# EAGLE library part TEXAS_INSTRUMENTS-BUCK_BOOST_CONTROLLER-LM5170 (library Module_Regulators)
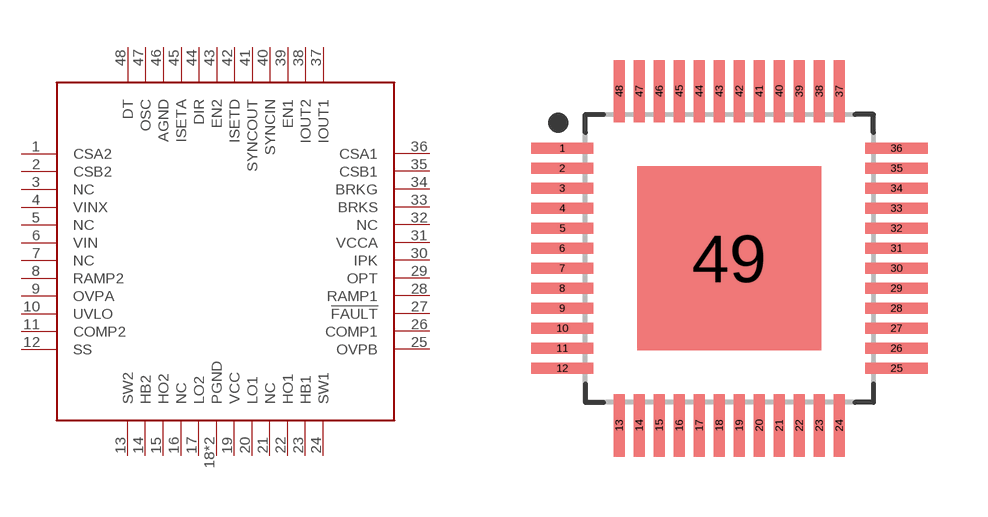
[diagram p38: symbol with the pads of TEXAS_INSTRUMENTS-BUCK-BOOST-CONTROLLER-LM5170; footprint TEXAS_INSTRUMENTS-BUCK-BOOST-CONTROLLER-LM5170]

Designator prefix U

## TEXAS_INSTRUMENTS-BUCK_BOOST_CONTROLLER-LM5170  [TEXAS_INSTRUMENTS-BUCK-BOOST-CONTROLLER-LM5170]
1  CSA2
2  CSB2
3  NC
4  VINX
5  NC
6  VIN
7  NC
8  RAMP2
9  OVPA
10  UVLO
11  COMP2
12  SS
13  SW2
14  HB2
15  HO2
16  NC
17  LO2
18  PGND
19  VCC
20  LO1
21  NC
22  HO1
23  HB1
24  SW1
25  OVPB
26  COMP1
27  !FAULT
28  RAMP1
29  OPT
30  IPK
31  VCCA
32  NC
33  BRKS
34  BRKG
35  CSB1
36  CSA1
37  IOUT1
38  IOUT2
39  EN1
40  SYNCIN
41  SYNCOUT
42  ISETD
43  EN2
44  DIR
45  ISETA
46  AGND
47  OSC
48  DT
49  PGND

## Footprint TEXAS_INSTRUMENTS-BUCK-BOOST-CONTROLLER-LM5170 (pad centres in mm)
48-QFP, 0.50 mm pitch, 9.00 mm span, 7.00 X 7.00 X 1.20 mm body, 4.60 X 4.60 mm thermal pad 48-pin QFP package with 0.50 mm pitch, 9.00 mm lead span1 X 9.00 mm lead span2 with body size 7.00 X 7.00 X 1.20 mm and thermal pad size 4.60 X 4.60 mm
smd 1.559 x 0.28: 1 -4.178,2.75; 2 -4.178,2.25; 3 -4.178,1.75; 4 -4.178,1.25; 5 -4.178,0.75; 6 -4.178,0.25; 7 -4.178,-0.25; 8 -4.178,-0.75; 9 -4.178,-1.25; 10 -4.178,-1.75; 11 -4.178,-2.25; 12 -4.178,-2.75; 25 4.178,-2.75; 26 4.178,-2.25; 27 4.178,-1.75; 28 4.178,-1.25; 29 4.178,-0.75; 30 4.178,-0.25; 31 4.178,0.25; 32 4.178,0.75; 33 4.178,1.25; 34 4.178,1.75; 35 4.178,2.25; 36 4.178,2.75
smd 0.28 x 1.559: 13 -2.75,-4.178; 14 -2.25,-4.178; 15 -1.75,-4.178; 16 -1.25,-4.178; 17 -0.75,-4.178; 18 -0.25,-4.178; 19 0.25,-4.178; 20 0.75,-4.178; 21 1.25,-4.178; 22 1.75,-4.178; 23 2.25,-4.178; 24 2.75,-4.178; 37 2.75,4.178; 38 2.25,4.178; 39 1.75,4.178; 40 1.25,4.178; 41 0.75,4.178; 42 0.25,4.178; 43 -0.25,4.178; 44 -0.75,4.178; 45 -1.25,4.178; 46 -1.75,4.178; 47 -2.25,4.178; 48 -2.75,4.178
smd 4.6 x 4.6: 49 0,0